# EAGLE library part SOIC8 (library aobotelhoLibrary)
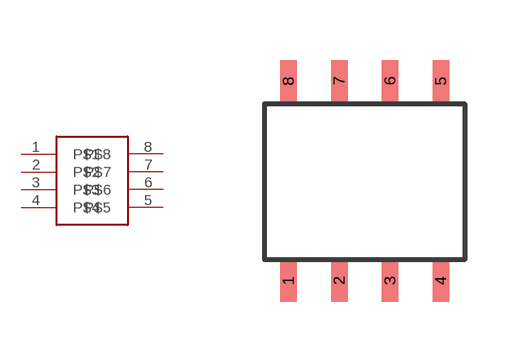
[diagram p4: symbol with the pads of SOIC8; footprint SOIC8]

Designator prefix -

## SOIC8  [SOIC8]
1  P$1
2  P$2
3  P$3
4  P$4
5  P$5
6  P$6
7  P$7
8  P$8

## Footprint SOIC8 (pad centres in mm)
smd 0.41 x 1.05: 1 -1.94,-2.557; 2 -0.67,-2.557; 3 0.6,-2.557; 4 1.87,-2.557; 5 1.87,2.443; 6 0.6,2.443; 7 -0.67,2.443; 8 -1.94,2.443